# Altium schematic symbol library atmel-arm.SchLib: 3 symbols
Pins are listed as number, name and electrical type; pins without a type are passive.

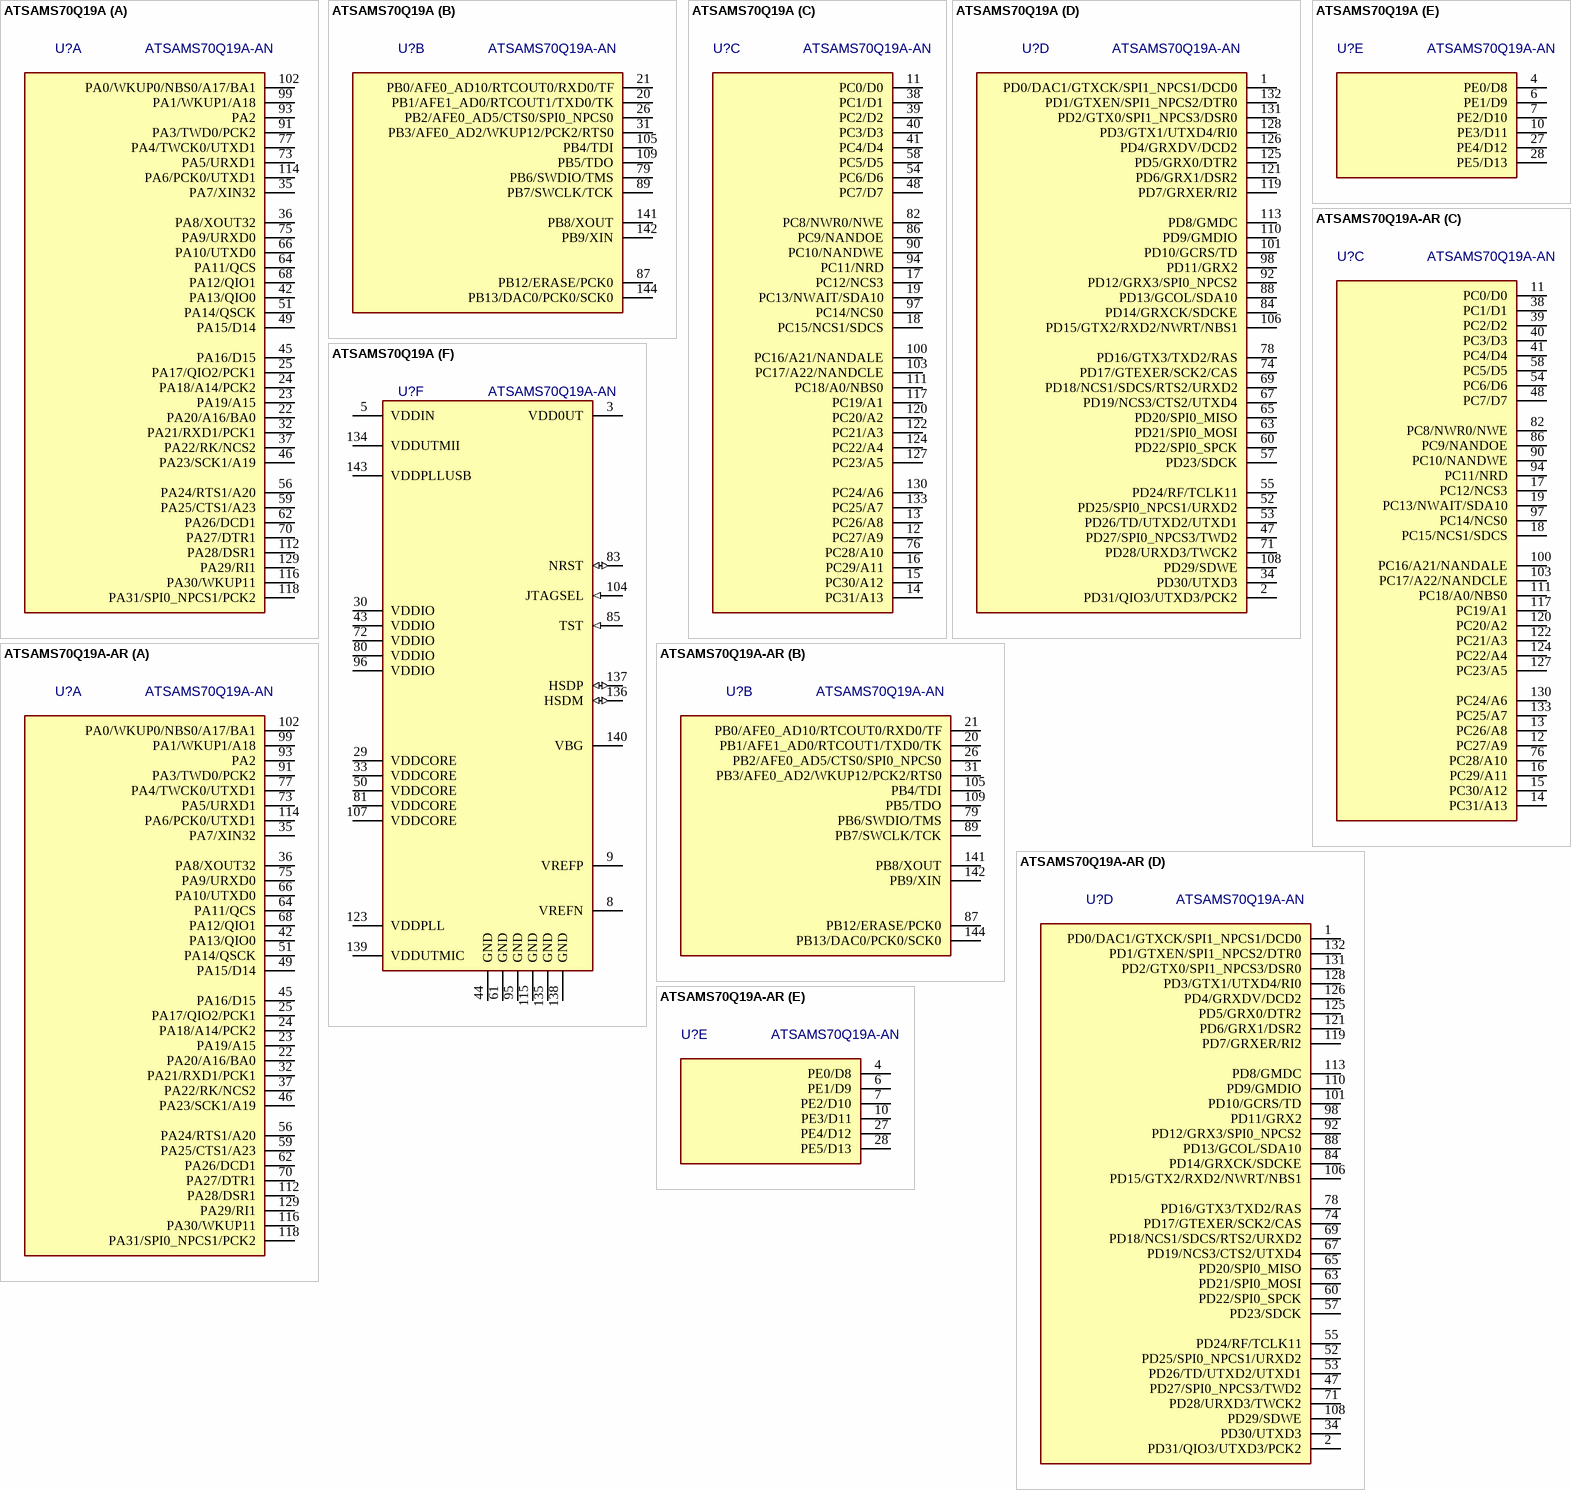
[diagram p0: symbols ATSAMS70Q19A to ATSAMS70Q19A-AR]

## ATSAMS70Q19A
designator U?, comment value ATSAMS70Q19A-AN  (hidden comment: 000000)
Cortex-M7 Microcontroller  512KB Flash 256KB RAM; MF: Atmel; Package: LQFP-144; PN: 000000; ExtraInfo: *
footprint LQFP-144 (TSQFP, 144-Leads, Body 22.0x22.0mm (max), Pitch 0.50mm, IPC Medium Density)
part A pins: 22 PA20/A16/BA0, 23 PA19/A15, 24 PA18/A14/PCK2, 25 PA17/QIO2/PCK1, 32 PA21/RXD1/PCK1, 35 PA7/XIN32, 36 PA8/XOUT32, 37 PA22/RK/NCS2, 42 PA13/QIO0, 45 PA16/D15, 46 PA23/SCK1/A19, 49 PA15/D14, 51 PA14/QSCK, 56 PA24/RTS1/A20, 59 PA25/CTS1/A23, 62 PA26/DCD1, 64 PA11/QCS, 66 PA10/UTXD0, 68 PA12/QIO1, 70 PA27/DTR1, 73 PA5/URXD1, 75 PA9/URXD0, 77 PA4/TWCK0/UTXD1, 91 PA3/TWD0/PCK2, 93 PA2, 99 PA1/WKUP1/A18, 102 PA0/WKUP0/NBS0/A17/BA1, 112 PA28/DSR1, 114 PA6/PCK0/UTXD1, 116 PA30/WKUP11, 118 PA31/SPI0_NPCS1/PCK2, 129 PA29/RI1
part B pins: 20 PB1/AFE1_AD0/RTCOUT1/TXD0/TK, 21 PB0/AFE0_AD10/RTCOUT0/RXD0/TF, 26 PB2/AFE0_AD5/CTS0/SPI0_NPCS0, 31 PB3/AFE0_AD2/WKUP12/PCK2/RTS0, 79 PB6/SWDIO/TMS, 87 PB12/ERASE/PCK0, 89 PB7/SWCLK/TCK, 105 PB4/TDI, 109 PB5/TDO, 141 PB8/XOUT, 142 PB9/XIN, 144 PB13/DAC0/PCK0/SCK0
part C pins: 11 PC0/D0, 12 PC27/A9, 13 PC26/A8, 14 PC31/A13, 15 PC30/A12, 16 PC29/A11, 17 PC12/NCS3, 18 PC15/NCS1/SDCS, 19 PC13/NWAIT/SDA10, 38 PC1/D1, 39 PC2/D2, 40 PC3/D3, 41 PC4/D4, 48 PC7/D7, 54 PC6/D6, 58 PC5/D5, 76 PC28/A10, 82 PC8/NWR0/NWE, 86 PC9/NANDOE, 90 PC10/NANDWE, 94 PC11/NRD, 97 PC14/NCS0, 100 PC16/A21/NANDALE, 103 PC17/A22/NANDCLE, 111 PC18/A0/NBS0, 117 PC19/A1, 120 PC20/A2, 122 PC21/A3, 124 PC22/A4, 127 PC23/A5, 130 PC24/A6, 133 PC25/A7
part D pins: 1 PD0/DAC1/GTXCK/SPI1_NPCS1/DCD0, 2 PD31/QIO3/UTXD3/PCK2, 34 PD30/UTXD3, 47 PD27/SPI0_NPCS3/TWD2, 52 PD25/SPI0_NPCS1/URXD2, 53 PD26/TD/UTXD2/UTXD1, 55 PD24/RF/TCLK11, 57 PD23/SDCK, 60 PD22/SPI0_SPCK, 63 PD21/SPI0_MOSI, 65 PD20/SPI0_MISO, 67 PD19/NCS3/CTS2/UTXD4, 69 PD18/NCS1/SDCS/RTS2/URXD2, 71 PD28/URXD3/TWCK2, 74 PD17/GTEXER/SCK2/CAS, 78 PD16/GTX3/TXD2/RAS, 84 PD14/GRXCK/SDCKE, 88 PD13/GCOL/SDA10, 92 PD12/GRX3/SPI0_NPCS2, 98 PD11/GRX2, 101 PD10/GCRS/TD, 106 PD15/GTX2/RXD2/NWRT/NBS1, 108 PD29/SDWE, 110 PD9/GMDIO, 113 PD8/GMDC, 119 PD7/GRXER/RI2, 121 PD6/GRX1/DSR2, 125 PD5/GRX0/DTR2, 126 PD4/GRXDV/DCD2, 128 PD3/GTX1/UTXD4/RI0, 131 PD2/GTX0/SPI1_NPCS3/DSR0, 132 PD1/GTXEN/SPI1_NPCS2/DTR0
part E pins: 4 PE0/D8, 6 PE1/D9, 7 PE2/D10, 10 PE3/D11, 27 PE4/D12, 28 PE5/D13
part F pins: 3 VDD0UT (power), 5 VDDIN (power), 8 VREFN (power), 9 VREFP (power), 29 VDDCORE (power), 30 VDDIO (power), 33 VDDCORE (power), 43 VDDIO (power), 44 GND (power), 50 VDDCORE (power), 61 GND (power), 72 VDDIO (power), 80 VDDIO (power), 81 VDDCORE (power), 83 NRST (io), 85 TST (in), 95 GND (power), 96 VDDIO (power), 104 JTAGSEL (in), 107 VDDCORE (power), 115 GND (power), 123 VDDPLL (power), 134 VDDUTMII (power), 135 GND (power), 136 HSDM (io), 137 HSDP (io), 138 GND (power), 139 VDDUTMIC (power), 140 VBG (power), 143 VDDPLLUSB (power)

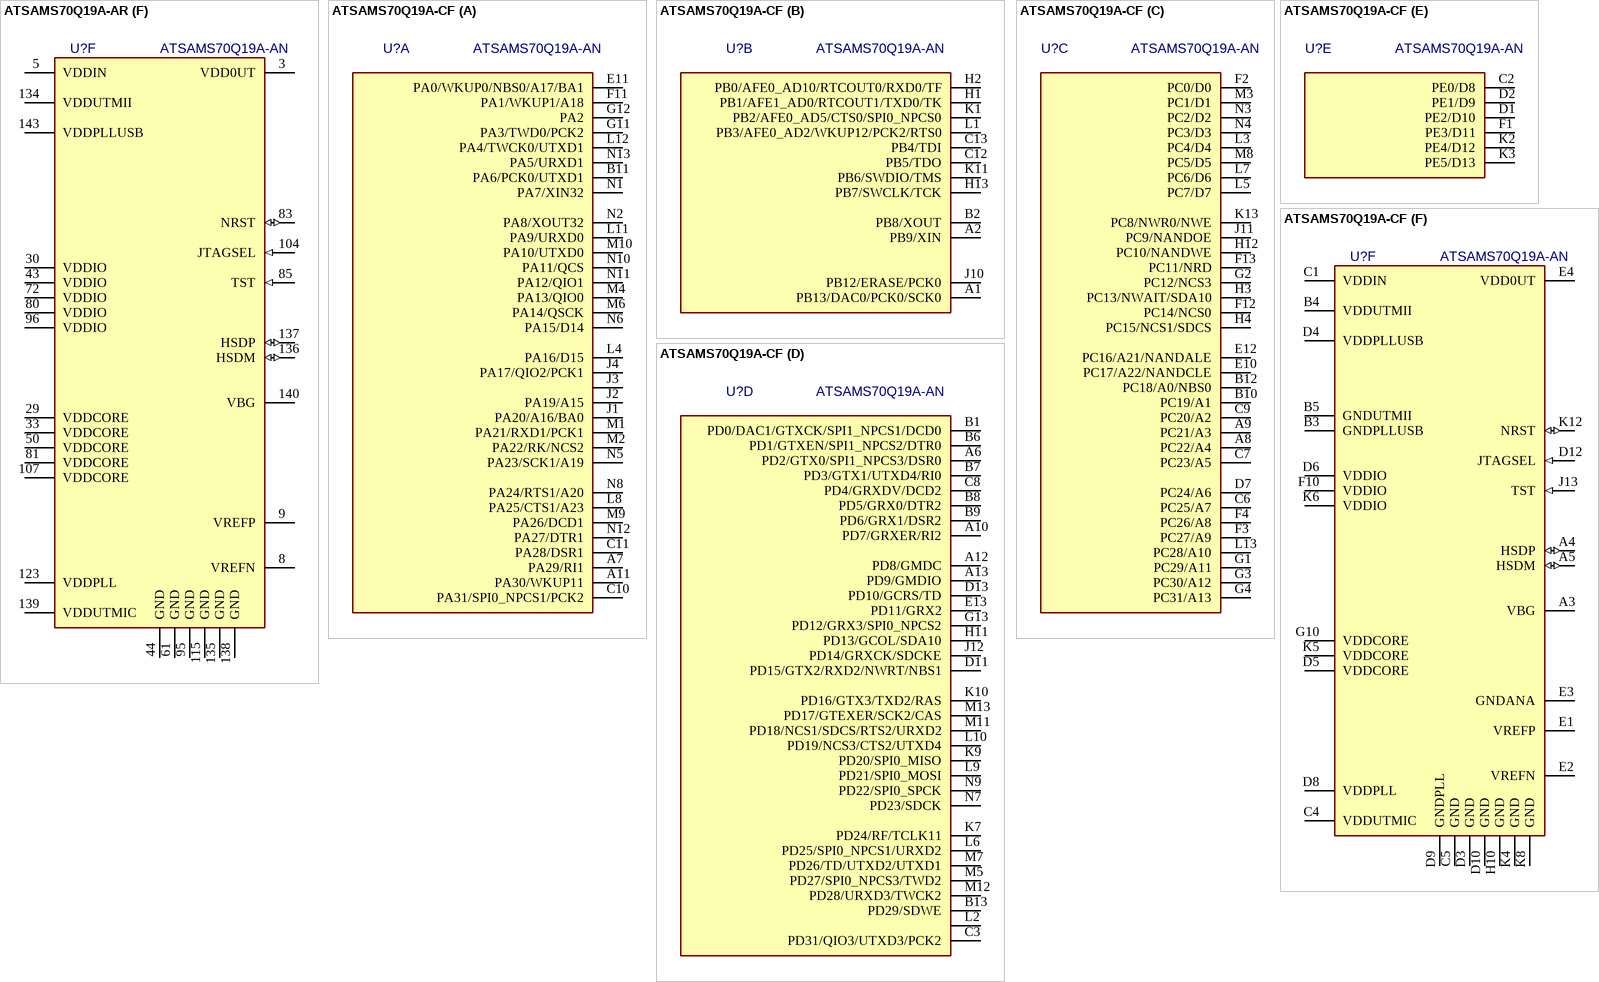
[diagram p1: symbols ATSAMS70Q19A-AR to ATSAMS70Q19A-CF]

## ATSAMS70Q19A-AR
designator U?, comment value ATSAMS70Q19A-AN  (hidden comment: 000000)
Cortex-M7 Microcontroller  512KB Flash 256KB RAM; MF: Atmel; Package: LQFP-144; PN: 000000; ExtraInfo: *
footprint LQFP144R (TSQFP, 144-Leads, Body 22.0x22.0mm (max), Pitch 0.50mm, IPC Medium Density)
part A pins: 22 PA20/A16/BA0, 23 PA19/A15, 24 PA18/A14/PCK2, 25 PA17/QIO2/PCK1, 32 PA21/RXD1/PCK1, 35 PA7/XIN32, 36 PA8/XOUT32, 37 PA22/RK/NCS2, 42 PA13/QIO0, 45 PA16/D15, 46 PA23/SCK1/A19, 49 PA15/D14, 51 PA14/QSCK, 56 PA24/RTS1/A20, 59 PA25/CTS1/A23, 62 PA26/DCD1, 64 PA11/QCS, 66 PA10/UTXD0, 68 PA12/QIO1, 70 PA27/DTR1, 73 PA5/URXD1, 75 PA9/URXD0, 77 PA4/TWCK0/UTXD1, 91 PA3/TWD0/PCK2, 93 PA2, 99 PA1/WKUP1/A18, 102 PA0/WKUP0/NBS0/A17/BA1, 112 PA28/DSR1, 114 PA6/PCK0/UTXD1, 116 PA30/WKUP11, 118 PA31/SPI0_NPCS1/PCK2, 129 PA29/RI1
part B pins: 20 PB1/AFE1_AD0/RTCOUT1/TXD0/TK, 21 PB0/AFE0_AD10/RTCOUT0/RXD0/TF, 26 PB2/AFE0_AD5/CTS0/SPI0_NPCS0, 31 PB3/AFE0_AD2/WKUP12/PCK2/RTS0, 79 PB6/SWDIO/TMS, 87 PB12/ERASE/PCK0, 89 PB7/SWCLK/TCK, 105 PB4/TDI, 109 PB5/TDO, 141 PB8/XOUT, 142 PB9/XIN, 144 PB13/DAC0/PCK0/SCK0
part C pins: 11 PC0/D0, 12 PC27/A9, 13 PC26/A8, 14 PC31/A13, 15 PC30/A12, 16 PC29/A11, 17 PC12/NCS3, 18 PC15/NCS1/SDCS, 19 PC13/NWAIT/SDA10, 38 PC1/D1, 39 PC2/D2, 40 PC3/D3, 41 PC4/D4, 48 PC7/D7, 54 PC6/D6, 58 PC5/D5, 76 PC28/A10, 82 PC8/NWR0/NWE, 86 PC9/NANDOE, 90 PC10/NANDWE, 94 PC11/NRD, 97 PC14/NCS0, 100 PC16/A21/NANDALE, 103 PC17/A22/NANDCLE, 111 PC18/A0/NBS0, 117 PC19/A1, 120 PC20/A2, 122 PC21/A3, 124 PC22/A4, 127 PC23/A5, 130 PC24/A6, 133 PC25/A7
part D pins: 1 PD0/DAC1/GTXCK/SPI1_NPCS1/DCD0, 2 PD31/QIO3/UTXD3/PCK2, 34 PD30/UTXD3, 47 PD27/SPI0_NPCS3/TWD2, 52 PD25/SPI0_NPCS1/URXD2, 53 PD26/TD/UTXD2/UTXD1, 55 PD24/RF/TCLK11, 57 PD23/SDCK, 60 PD22/SPI0_SPCK, 63 PD21/SPI0_MOSI, 65 PD20/SPI0_MISO, 67 PD19/NCS3/CTS2/UTXD4, 69 PD18/NCS1/SDCS/RTS2/URXD2, 71 PD28/URXD3/TWCK2, 74 PD17/GTEXER/SCK2/CAS, 78 PD16/GTX3/TXD2/RAS, 84 PD14/GRXCK/SDCKE, 88 PD13/GCOL/SDA10, 92 PD12/GRX3/SPI0_NPCS2, 98 PD11/GRX2, 101 PD10/GCRS/TD, 106 PD15/GTX2/RXD2/NWRT/NBS1, 108 PD29/SDWE, 110 PD9/GMDIO, 113 PD8/GMDC, 119 PD7/GRXER/RI2, 121 PD6/GRX1/DSR2, 125 PD5/GRX0/DTR2, 126 PD4/GRXDV/DCD2, 128 PD3/GTX1/UTXD4/RI0, 131 PD2/GTX0/SPI1_NPCS3/DSR0, 132 PD1/GTXEN/SPI1_NPCS2/DTR0
part E pins: 4 PE0/D8, 6 PE1/D9, 7 PE2/D10, 10 PE3/D11, 27 PE4/D12, 28 PE5/D13
part F pins: 3 VDD0UT (power), 5 VDDIN (power), 8 VREFN (power), 9 VREFP (power), 29 VDDCORE (power), 30 VDDIO (power), 33 VDDCORE (power), 43 VDDIO (power), 44 GND (power), 50 VDDCORE (power), 61 GND (power), 72 VDDIO (power), 80 VDDIO (power), 81 VDDCORE (power), 83 NRST (io), 85 TST (in), 95 GND (power), 96 VDDIO (power), 104 JTAGSEL (in), 107 VDDCORE (power), 115 GND (power), 123 VDDPLL (power), 134 VDDUTMII (power), 135 GND (power), 136 HSDM (io), 137 HSDP (io), 138 GND (power), 139 VDDUTMIC (power), 140 VBG (power), 143 VDDPLLUSB (power)

## ATSAMS70Q19A-CF
designator U?, comment value ATSAMS70Q19A-AN  (hidden comment: 000000)
Cortex-M7 Microcontroller  512KB Flash 256KB RAM; MF: Atmel; Package: UFBGA144; PN: 000000; ExtraInfo: *
footprint UFBGA144 (BGA, 144-Leads, Body 6.00x6.00mmx0.60mm, Pitch 0.40mm)
part A pins: A7 PA29/RI1, A11 PA30/WKUP11, B11 PA6/PCK0/UTXD1, C10 PA31/SPI0_NPCS1/PCK2, C11 PA28/DSR1, E11 PA0/WKUP0/NBS0/A17/BA1, F11 PA1/WKUP1/A18, G11 PA3/TWD0/PCK2, G12 PA2, J1 PA20/A16/BA0, J2 PA19/A15, J3 PA18/A14/PCK2, J4 PA17/QIO2/PCK1, L4 PA16/D15, L8 PA25/CTS1/A23, L11 PA9/URXD0, L12 PA4/TWCK0/UTXD1, M1 PA21/RXD1/PCK1, M2 PA22/RK/NCS2, M4 PA13/QIO0, M6 PA14/QSCK, M9 PA26/DCD1, M10 PA10/UTXD0, N1 PA7/XIN32, N2 PA8/XOUT32, N5 PA23/SCK1/A19, N6 PA15/D14, N8 PA24/RTS1/A20, N10 PA11/QCS, N11 PA12/QIO1, N12 PA27/DTR1, N13 PA5/URXD1
part B pins: A1 PB13/DAC0/PCK0/SCK0, A2 PB9/XIN, B2 PB8/XOUT, C12 PB5/TDO, C13 PB4/TDI, H1 PB1/AFE1_AD0/RTCOUT1/TXD0/TK, H2 PB0/AFE0_AD10/RTCOUT0/RXD0/TF, H13 PB7/SWCLK/TCK, J10 PB12/ERASE/PCK0, K1 PB2/AFE0_AD5/CTS0/SPI0_NPCS0, K11 PB6/SWDIO/TMS, L1 PB3/AFE0_AD2/WKUP12/PCK2/RTS0
part C pins: A8 PC22/A4, A9 PC21/A3, B10 PC19/A1, B12 PC18/A0/NBS0, C6 PC25/A7, C7 PC23/A5, C9 PC20/A2, D7 PC24/A6, E10 PC17/A22/NANDCLE, E12 PC16/A21/NANDALE, F2 PC0/D0, F3 PC27/A9, F4 PC26/A8, F12 PC14/NCS0, F13 PC11/NRD, G1 PC29/A11, G2 PC12/NCS3, G3 PC30/A12, G4 PC31/A13, H3 PC13/NWAIT/SDA10, H4 PC15/NCS1/SDCS, H12 PC10/NANDWE, J11 PC9/NANDOE, K13 PC8/NWR0/NWE, L3 PC4/D4, L5 PC7/D7, L7 PC6/D6, L13 PC28/A10, M3 PC1/D1, M8 PC5/D5, N3 PC2/D2, N4 PC3/D3
part D pins: A6 PD2/GTX0/SPI1_NPCS3/DSR0, A10 PD7/GRXER/RI2, A12 PD8/GMDC, A13 PD9/GMDIO, B1 PD0/DAC1/GTXCK/SPI1_NPCS1/DCD0, B6 PD1/GTXEN/SPI1_NPCS2/DTR0, B7 PD3/GTX1/UTXD4/RI0, B8 PD5/GRX0/DTR2, B9 PD6/GRX1/DSR2, B13 PD29/SDWE, C3 PD31/QIO3/UTXD3/PCK2, C8 PD4/GRXDV/DCD2, D11 PD15/GTX2/RXD2/NWRT/NBS1, D13 PD10/GCRS/TD, E13 PD11/GRX2, G13 PD12/GRX3/SPI0_NPCS2, H11 PD13/GCOL/SDA10, J12 PD14/GRXCK/SDCKE, K7 PD24/RF/TCLK11, K9 PD20/SPI0_MISO, K10 PD16/GTX3/TXD2/RAS, L2 PD30/UTXD3, L6 PD25/SPI0_NPCS1/URXD2, L9 PD21/SPI0_MOSI, L10 PD19/NCS3/CTS2/UTXD4, M5 PD27/SPI0_NPCS3/TWD2, M7 PD26/TD/UTXD2/UTXD1, M11 PD18/NCS1/SDCS/RTS2/URXD2, M12 PD28/URXD3/TWCK2, M13 PD17/GTEXER/SCK2/CAS, N7 PD23/SDCK, N9 PD22/SPI0_SPCK
part E pins: C2 PE0/D8, D1 PE2/D10, D2 PE1/D9, F1 PE3/D11, K2 PE4/D12, K3 PE5/D13
part F pins: A3 VBG (power), A4 HSDP (io), A5 HSDM (io), B3 GNDPLLUSB (power), B4 VDDUTMII (power), B5 GNDUTMII (power), C1 VDDIN (power), C4 VDDUTMIC (power), C5 GND (power), D3 GND (power), D4 VDDPLLUSB (power), D5 VDDCORE (power), D6 VDDIO (power), D8 VDDPLL (power), D9 GNDPLL (power), D10 GND (power), D12 JTAGSEL (in), E1 VREFP (power), E2 VREFN (power), E3 GNDANA (power), E4 VDD0UT (power), F10 VDDIO (power), G10 VDDCORE (power), H10 GND (power), J13 TST (in), K4 GND (power), K5 VDDCORE (power), K6 VDDIO (power), K8 GND (power), K12 NRST (io)